# Altium footprint library Ind_Vishay_IHLP2525CZER4R7M01_eec_MFG.PcbLib: 1 footprints
Each footprint in its own frame and in the unit in brackets; x right, y up, seen from the top. Pads: shape width x height; smd on the part's side, far side on the other; paste and mask are expansions set on the pad; w line width, h text height; cw(c..) or ccw(c..) is an arc to the next point about the centre after c.
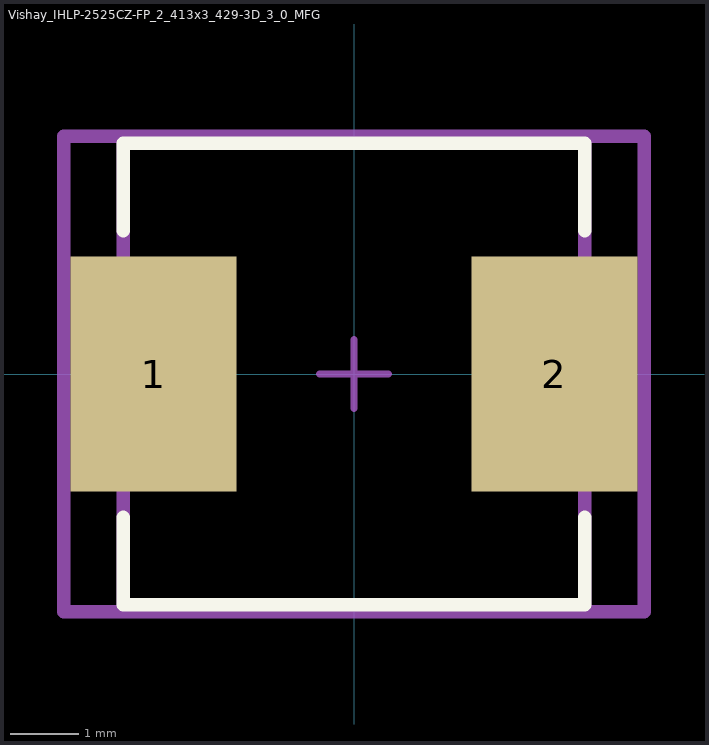
[diagram p0: the footprint, top view; thin cyan lines are the x and y axes]

## Vishay_IHLP-2525CZ-FP_2_413x3_429-3D_3_0_MFG [mil]
pads (2):
  rect 95x135 smd paste+0 mask+0: 1(-115,0) 2(115,0)
Top Overlay:
  lines w7.87: -132.36,-82.26 -132.36,-132.36 132.36,-132.36 132.36,-82.26 ; -132.36,82.26 -132.36,132.36 132.36,132.36 132.36,82.26
Mechanical 10:
  lines w7.87: -166.44,-136.3 166.44,-136.3 166.44,136.3 -166.44,136.3 -166.44,-136.3
  text ".Designator" at 0,7.41 h39.37
Mechanical 12:
  lines w7.87: -132.36,-132.36 132.36,-132.36 132.36,132.36 -132.36,132.36 -132.36,-132.36
Mechanical 15:
  lines w3.94: -19.68,0 19.68,0 ; 0,-19.68 0,19.68
  lines w7.87: -166.44,-136.3 166.44,-136.3 166.44,136.3 -166.44,136.3 -166.44,-136.3
3D body "Ind_Vishay_IHLP2525CZER4R7M01_eec.STEP": height 10, standoff 0, extent -166.44,-136.3 166.44,136.3